# Altium footprint library 691 201 720 0xx.PcbLib: 2 footprints
Each footprint in its own frame and in the unit in brackets; x right, y up, seen from the top. Pads: shape width x height; smd on the part's side, far side on the other; paste and mask are expansions set on the pad; w line width, h text height; cw(c..) or ccw(c..) is an arc to the next point about the centre after c.
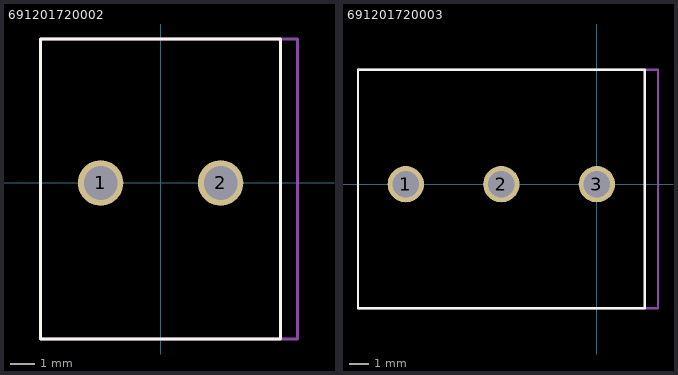
[diagram p0: the footprints below, top view; thin cyan lines are the x and y axes]

## 691201720002 [mm] "5,00mm - modular - blue -45° entry with rising cage clamp - 02p"
height 12.5
pads (2):
  round 1.9 hole 1.4: 1(-2.5,0) 2(2.5,0)
Top Overlay:
  lines w0.127: -5,-6.5 -5,6 5,6 5,-6.5 -5,-6.5
Mechanical 13:
  lines w0.127: -5,-6.5 -5,6 5.7,6 5.7,-6.5 -5,-6.5
3D body: height 12.51, standoff -4.49, extent -5,-6.5 5.7,6

## 691201720003 [mm] "5,00mm - modular - blue -45° entry with rising cage clamp - 03p"
height 12.5
pads (3):
  round 1.9 hole 1.4: 1(-10,0) 2(-5,0) 3(0,0)
Top Overlay:
  lines w0.127: -12.5,-6.5 -12.5,6 2.5,6 2.5,-6.5 -12.5,-6.5
Mechanical 13:
  lines w0.127: -12.5,-6.5 3.2,-6.5 3.2,6 -12.5,6 -12.5,-6.5
3D body: height 12.51, standoff -4.49, extent -12.5,-6.5 3.2,6